# Altium footprint library footprints.PcbLib: 10 footprints
Each footprint in its own frame and in the unit in brackets; x right, y up, seen from the top. Pads: shape width x height; smd on the part's side, far side on the other; paste and mask are expansions set on the pad; w line width, h text height; cw(c..) or ccw(c..) is an arc to the next point about the centre after c.
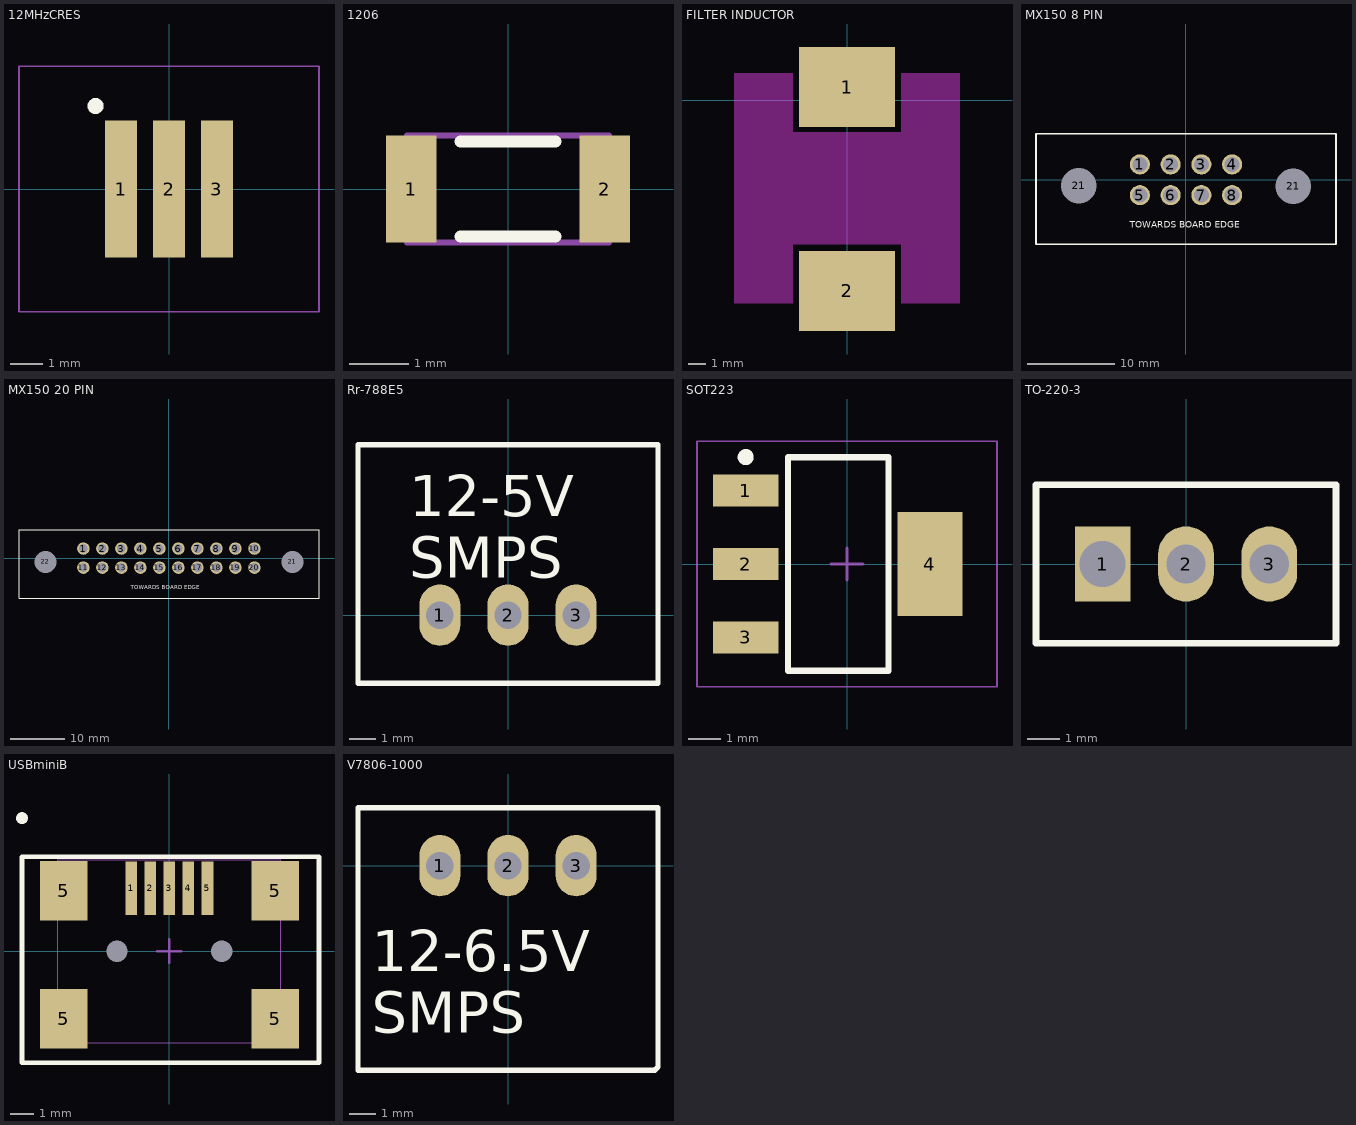
[diagram p0: the footprints below, top view; thin cyan lines are the x and y axes]

## 12MHzCRES [mm] "12MHz 22pF Ceramic Resonator"
height 1.8
pads (3):
  rect 1x4.3 smd: 1(-1.5,0) 2(0,0) 3(1.5,0)
Top Overlay:
  circle w0.25: c-2.3,2.6 r0.125
Mechanical 15:
  lines w0.05: -4.7,-3.85 4.7,-3.85 4.7,3.85 -4.7,3.85 -4.7,-3.85

## 1206 [mm] "Chip Capacitor, 2-Leads, Body 3.20x1.60mm, IPC Medium Density"
height 0.6
pads (2):
  rect 0.85x1.8 smd: 1(-1.625,0) 2(1.625,0)
Top Overlay:
  lines w0.2: -0.8,-0.8 0.8,-0.8 ; -0.8,0.8 0.8,0.8
Mechanical 13:
  lines w0.1: -1.7,-0.9 -1.7,0.9 1.7,0.9 1.7,-0.9 -1.7,-0.9
3D body: height 0.6, standoff 0, extent -1.7,-0.9 -1.5,0.9
3D body: height 0.6, standoff 0, extent 1.5,-0.9 1.7,0.9
3D body: height 0.6, standoff 0, extent -1.5,-0.9 1.5,0.9

## FILTER INDUCTOR [mm]
pads (2):
  rect 5.4x4.5 smd: 1(0,0.74) 2(0.01,-10.73)
Keep-Out Layer:
  rectangle: -6.35,-11.43 -3.048,1.524
  rectangle: 3.048,-11.43 6.35,1.524
  rectangle: -3.429,-8.128 3.556,-1.778

## MX150 8 PIN [mm]
height 25.29
pads (10):
  round 2.3 hole 1.7: 1(-5.25,1.75) 2(-1.75,1.75) 3(1.75,1.75) 4(5.25,1.75) 5(-5.25,-1.75) 6(-1.75,-1.75) 7(1.75,-1.75) 8(5.25,-1.75)
  round 1.9 hole 4.05 unplated: 21(-12.23,-0.69) 21(12.25,-0.71)
Top Overlay:
  lines w0.203: -17.1,-7.35 17.1,-7.35 17.1,5.25 -17.1,5.25 -17.1,-7.35
  text "TOWARDS BOARD EDGE" at -6.42,-5.44 h0.76
3D body: height 25.29, standoff 0, extent -17.06,-7.32 17.06,5.25

## MX150 20 PIN [mm]
height 25.29
pads (22):
  round 2.3 hole 1.6: 1(-15.75,1.75) 2(-12.25,1.75) 3(-8.75,1.75) 4(-5.25,1.75) 5(-1.75,1.75) 6(1.75,1.75) 7(5.25,1.75) 8(8.75,1.75) 9(12.25,1.75) 10(15.75,1.75) 11(-15.75,-1.75) 12(-12.25,-1.75) 13(-8.75,-1.75) 14(-5.25,-1.75) 15(-1.75,-1.75) 16(1.75,-1.75) 17(5.25,-1.75) 18(8.75,-1.75) 19(12.25,-1.75) 20(15.75,-1.75)
  round 1.9 hole 4.05 unplated: 21(22.75,-0.71) 22(-22.75,-0.71)
Top Overlay:
  lines w0.203: -27.59,-7.43 27.63,-7.43 27.63,5.24 -27.59,5.24 -27.59,-7.43
  text "TOWARDS BOARD EDGE" at -7,-5.78 h0.76
3D body: height 25.29, standoff 0, extent -27.58,-7.42 27.59,5.22

## Rr-788E5 [mil] "5V OUTPUT SMPS"
pads (3):
  oval 60x90 hole 40: 1(-100,0) 2(0,0) 3(100,0)
Top Overlay:
  lines w8: -220,-100 220,-100 220,250 -220,250 -220,-100
  text "12-5V / SMPS" at -145,55 h60
3D body: height 409.45, standoff 0, extent -220.08,-99.61 219.69,249.61

## SOT223 [mm] "SOT223, 4-Leads, Body 6.50x7.00mm (avg), Pitch 2.30mm, IPC Low Density"
height 1.8
pads (4):
  rect 2.05x1 smd: 1(-3.175,2.3) 2(-3.175,0) 3(-3.175,-2.3)
  rect 2.05x3.25 smd: 4(2.6,0)
Top Overlay:
  circle w0.25: c-3.175,3.35 r0.125
  lines w0.2: -1.85,-3.35 -1.85,3.35 1.3,3.35 1.3,-3.35 -1.85,-3.35
Mechanical 13:
  lines w0.1: -1.85,-3.35 -1.85,3.35 1.3,3.35 1.3,-3.35 -1.85,-3.35
Mechanical 15:
  lines w0.05: -4.7,-3.85 -4.7,3.85 4.7,3.85 4.7,-3.85 -4.7,-3.85
  lines w0.1: -0.5,0 0.5,0 ; 0,-0.5 0,0.5
3D body: height 1.8, standoff 0.02, extent -1.85,-3.35 1.3,3.35

## TO-220-3 [mm] "LM2940CT 5V LINEAR REG"
pads (3):
  rect 1.7x2.286 hole 1.4: 1(-2.54,0)
  oval 1.7x2.286 hole 1.2: 2(0,0) 3(2.54,0)
Top Overlay:
  lines w0.203: -4.572,-2.413 4.572,-2.413 4.572,2.413 -4.572,2.413 -4.572,-2.413

## USBminiB [mm] "USB header mini B"
height 1.8
pads (11):
  round 0 hole 0.9 mask+0: 1(-2.2,0)
  rect 0.5x2.25 smd: 1(-1.6,2.65) 2(-0.8,2.65) 3(0,2.65) 4(0.8,2.65) 5(1.6,2.65)
  round 0 hole 0.9 paste+0 mask+0: 2(2.2,0)
  rect 2x2.5 smd: 5(-4.45,-2.85) 5(-4.45,2.55) 5(4.45,-2.85) 5(4.45,2.55)
Top Overlay:
  circle w0.25: c-6.2,5.6 r0.125
  lines w0.2: -6.2,-4.7 6.3,-4.7 6.3,3.975 -6.2,3.975 -6.2,-4.7
Mechanical 15:
  lines w0.05: -4.7,-3.85 4.7,-3.85 4.7,3.85 -4.7,3.85 -4.7,-3.85
  lines w0.1: -0.5,0 0.5,0 ; 0,-0.5 0,0.5

## V7806-1000 [mil] "6.5V output SMPS"
height 689
pads (3):
  oval 60x90 hole 40: 1(-100,0) 2(0,0) 3(100,0)
Top Overlay:
  lines w8: -220,-300 215,-300 220,-295 220,85 -220,85 -220,-300
  text "12-6.5V / SMPS" at -200,-245 h60